# Altium footprint library HT75A0-1.PcbLib: 1 footprints
Each footprint in its own frame and in the unit in brackets; x right, y up, seen from the top. Pads: shape width x height; smd on the part's side, far side on the other; paste and mask are expansions set on the pad; w line width, h text height; cw(c..) or ccw(c..) is an arc to the next point about the centre after c.
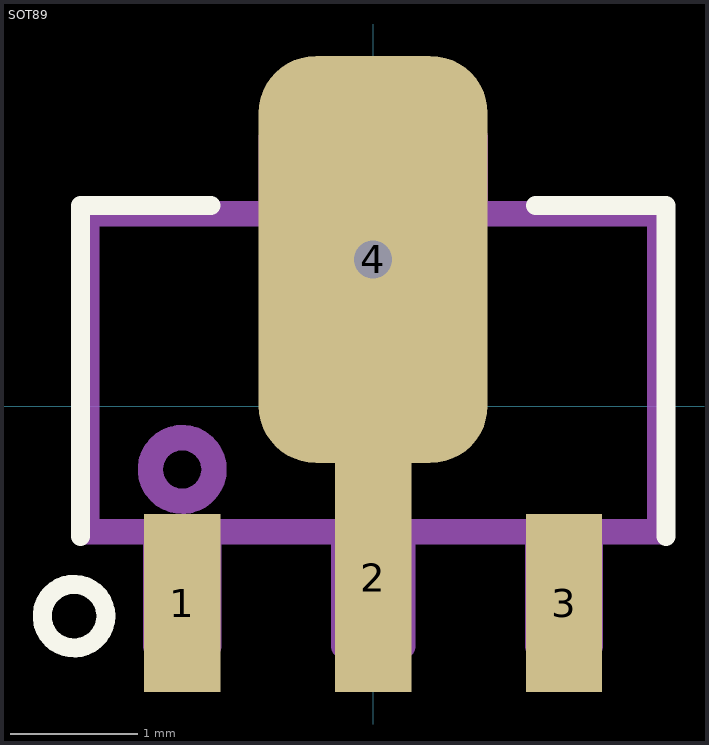
[diagram p0: the footprint, top view; thin cyan lines are the x and y axes]

## SOT89 [mm] "SOT89"
height 1.6
pads (4):
  rect 0.6x1.4 smd: 1(-1.5,-1.546) 3(1.5,-1.546)
  rect 0.6x1.8 smd: 2(0,-1.346)
  rrect50% 1.8x3.2 hole 0.3: 4(0,1.154)
Top Overlay:
  circle w0.15: c-2.35,-1.649 r0.25
  lines w0.15: -2.3,-1.024 -2.3,1.576 -1.275,1.576 ; 1.275,1.576 2.3,1.576 2.3,-1.024
Top Paste:
  region: 0.5,1.054 0.5,2.054 -0.5,2.054 -0.5,1.054
Mechanical 1:
  circle w0.2: c-1.5,-0.496 r0.25
  circle w0.2: c-1.5,-0.496 r0.25
  lines w0.2: -1.707,-0.986 -1.707,-1.886 -1.292,-1.886 -1.292,-0.986 ; -0.799,1.514 -0.799,2.114 0.801,2.114 0.801,1.514 ; -0.232,-0.986 -0.232,-1.886 0.233,-1.886 0.233,-0.986 ; 1.293,-0.986 1.293,-1.886 1.708,-1.886 1.708,-0.986 ; -2.249,-0.986 -2.249,1.514 2.251,1.514 2.251,-0.986 -2.249,-0.986
Mechanical 20:
  text "Необходима прошивка, см. pdf" at -2.9,3 h1.2
3D body "SOT89.STEP": height 1.5, standoff -0.05, extent -2.25,-1.871 2.25,2.129